# Altium integrated library ADS7841E_2K5_Rev2.IntLib: 1 symbol
Pins are listed as number, name and electrical type; pins without a type are passive.

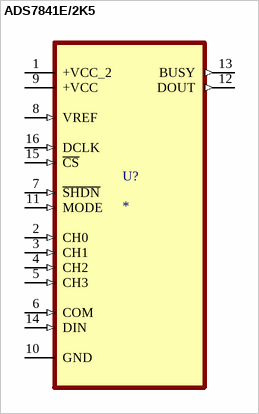
[diagram p0: symbol ADS7841E/2K5]

## ADS7841E/2K5
designator U?
ANALOG-TO-DIGITAL CONVERTER; MP: ADS7841E/2K5; Package: None; Price: None; Value: *; Availability: Unavailable
footprint SOP63P600X175-16N
pins: 1 +VCC_2 (power), 2 CH0 (in), 3 CH1 (in), 4 CH2 (in), 5 CH3 (in), 6 COM (in), 7 ~{SHDN} (in), 8 VREF (in), 9 +VCC (power), 10 GND, 11 MODE (in), 12 DOUT (out), 13 BUSY (out), 14 DIN (in), 15 ~{CS} (in), 16 DCLK (in)